# Altium footprint library OSC_SMD_ASDK.PcbLib: 1 footprints
Each footprint in its own frame and in the unit in brackets; x right, y up, seen from the top. Pads: shape width x height; smd on the part's side, far side on the other; paste and mask are expansions set on the pad; w line width, h text height; cw(c..) or ccw(c..) is an arc to the next point about the centre after c.
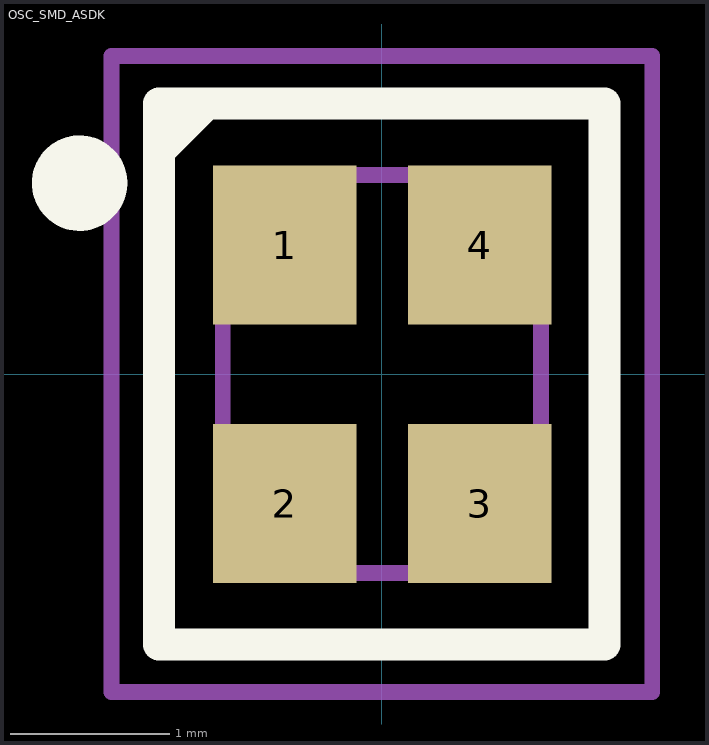
[diagram p0: the footprint, top view; thin cyan lines are the x and y axes]

## OSC_SMD_ASDK [mm]
pads (4):
  rect 0.9x1 smd: 1(-0.61,0.81) 2(-0.61,-0.815) 3(0.615,-0.815) 4(0.615,0.81)
Top Overlay:
  circle w0.3: c-1.9,1.2 r0.15
  lines w0.2: -1.4,1.4 -1.1,1.7 ; -1.4,-1.7 -1.4,1.7 1.4,1.7 1.4,-1.7 -1.4,-1.7
Mechanical 13:
  lines w0.1: -1,-1.25 1,-1.25 1,1.25 -1,1.25 -1,-1.25
Mechanical 15:
  lines w0.1: -1.7,-2 -1.7,2 1.7,2 1.7,-2 -1.7,-2
3D body: height 0.96, standoff 0, extent -1,-1.25 1,1.25